# EAGLE library part SSM2015 (library Diverse)
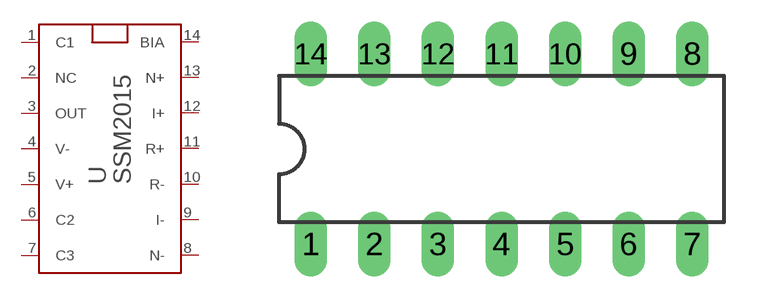
[diagram p10: symbol with the pads of DIL14; footprint DIL14]

Designator prefix U

## SSM2015  [DIL14]
1  C1
2  NC
3  OUT
4  V-
5  V+
6  C2
7  C3
8  N-
9  I-
10  R-
11  R+
12  I+
13  N+
14  BIA

## Footprint DIL14 (pad centres in mm)
Dual In Line Package
drill 0.8 long: 1 -7.62,-3.81; 2 -5.08,-3.81; 3 -2.54,-3.81; 4 0,-3.81; 5 2.54,-3.81; 6 5.08,-3.81; 7 7.62,-3.81; 8 7.62,3.81; 9 5.08,3.81; 10 2.54,3.81; 11 0,3.81; 12 -2.54,3.81; 13 -5.08,3.81; 14 -7.62,3.81